# EAGLE library part CD4066BPWR (library RoboJackets-Diodes)
Bilateral switch IC for controlling data lines. Vss should normally be connected to GND. Datasheet <https://www.ti.com/lit/ds/symlink/cd4066b.pdf?HQS=dis-dk-null-digikeymode-dsf-pf-null-wwe&ts=1621807795081>
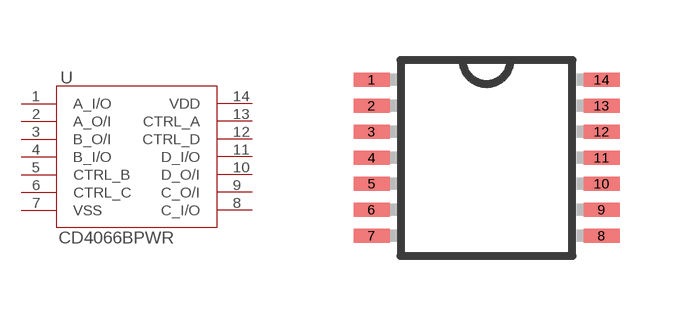
[diagram p1: symbol with the pads of TSSOP14; footprint TSSOP14]

Designator prefix U

## CD4066BPWR (DKPN: 296-14123-1-ND)  [TSSOP14]
1  A_I/O  pas
2  A_O/I  pas
3  B_O/I  pas
4  B_I/O  pas
5  CTRL_B  pas
6  CTRL_C  pas
7  VSS  pas
8  C_I/O  pas
9  C_O/I  pas
10  D_O/I  pas
11  D_I/O  pas
12  CTRL_D  pas
13  CTRL_A  pas
14  VDD  pas

## Footprint TSSOP14 (pad centres in mm)
14-Lead Thin Shrink Small Outline Package [TSSOP] Source: Analog Devices .. 780914713ADD8704_0.pdf https://www.digikey.com/products/en/prototyping-fabrication-products/adapter-breakout-boards/643?k=tssop14
smd 0.9 x 0.35: 1 -2.875,1.95; 2 -2.875,1.3; 3 -2.875,0.65; 4 -2.875,0; 5 -2.875,-0.65; 6 -2.875,-1.3; 7 -2.875,-1.95; 8 2.875,-1.95; 9 2.875,-1.3; 10 2.875,-0.65; 11 2.875,0; 12 2.875,0.65; 13 2.875,1.3; 14 2.875,1.95